# Altium schematic symbol library LPS22HBTR.SchLib: 1 symbol
Pins are listed as number, name and electrical type; pins without a type are passive.

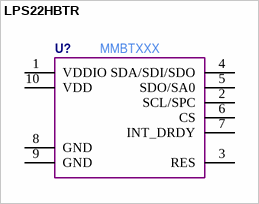
[diagram p0: symbol LPS22HBTR]

## LPS22HBTR
designator U?  Manufacturer Part Number: MMBTXXX  (hidden comment: *)
pins: 1 VDDIO, 2 SCL/SPC, 3 RES, 4 SDA/SDI/SDO, 5 SDO/SA0, 6 CS, 7 INT_DRDY, 8 GND, 9 GND, 10 VDD